# Altium footprint library led_ext_board.PcbLib: 11 footprints
Each footprint in its own frame and in the unit in brackets; x right, y up, seen from the top. Pads: shape width x height; smd on the part's side, far side on the other; paste and mask are expansions set on the pad; w line width, h text height; cw(c..) or ccw(c..) is an arc to the next point about the centre after c.
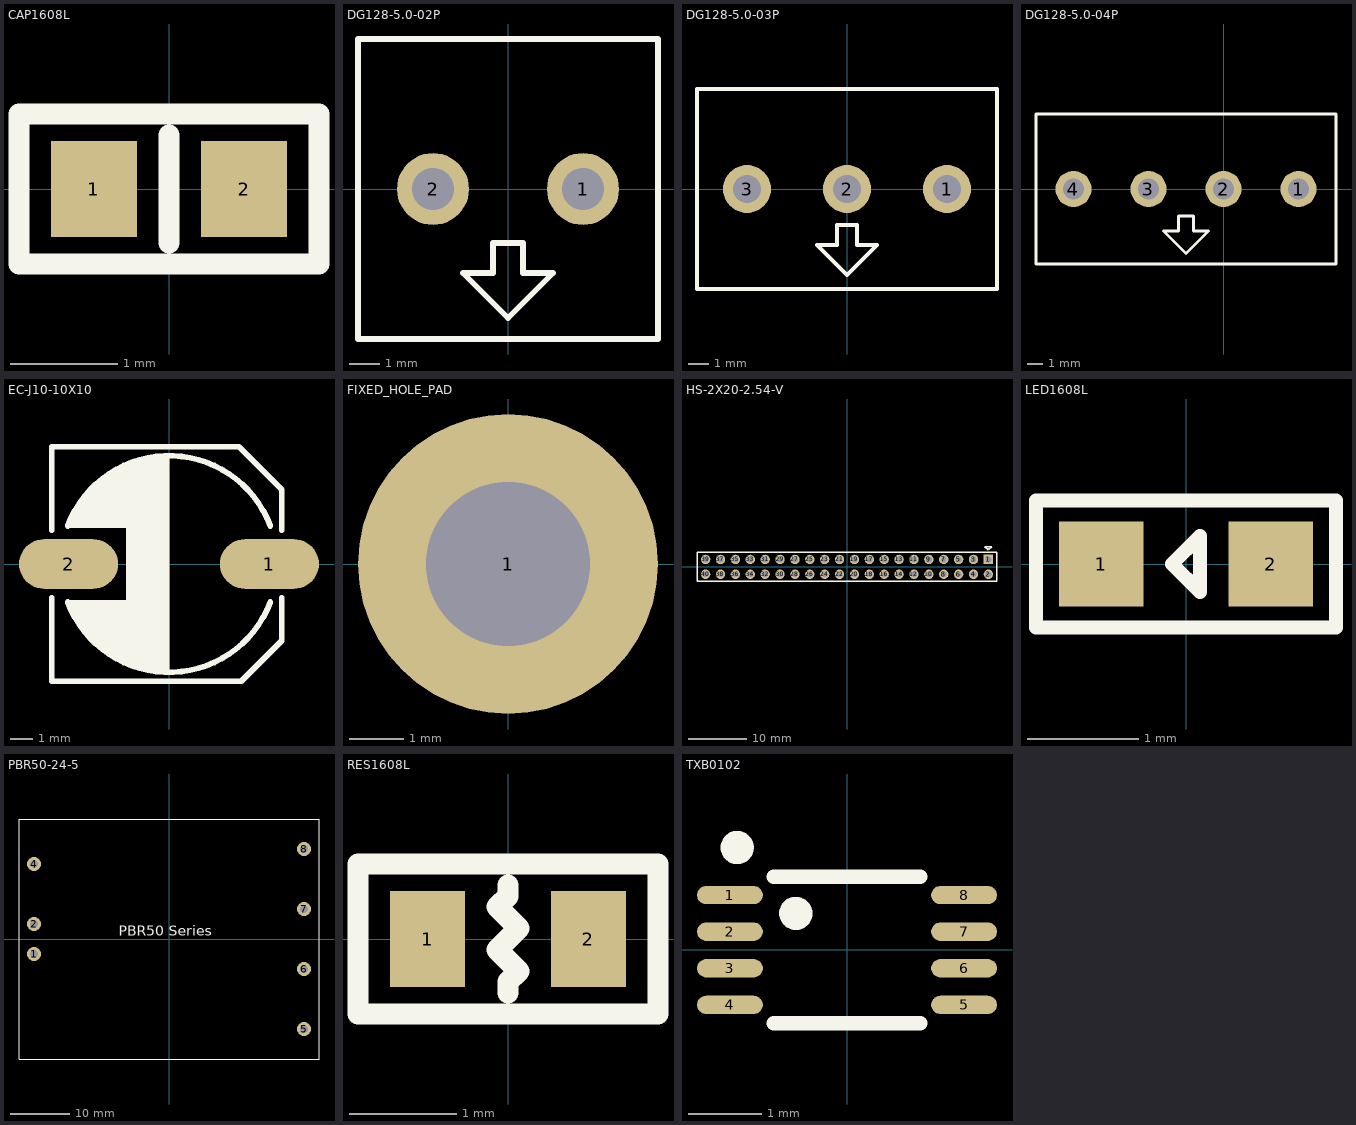
[diagram p0: the footprints below, top view; thin cyan lines are the x and y axes]

## CAP1608L [mm]
height 1
pads (2):
  rect 0.8x0.9 smd: 1(-0.7,0) 2(0.7,0)
Top Overlay:
  lines w0.2: 0,-0.5 0,0.5 ; -1.4,-0.7 -1.4,0.7 1.4,0.7 1.4,-0.7 -1.4,-0.7
3D body "User Library-CAPC1608X09.step": height 0.8, standoff 0, extent -0.8,-0.45 0.8,0.45

## DG128-5.0-02P [mm]
height 14
pads (2):
  round 2.4 hole 1.4: 1(2.5,0) 2(-2.5,0)
Top Overlay:
  lines w0.2: -5,-5 5,-5 5,5 -5,5 -5,-5 ; -1.5,-2.8 -0.5,-2.8 -0.5,-1.8 0.5,-1.8 0.5,-2.8 1.5,-2.8 0,-4.3 -1.5,-2.8
3D body: height 0.25, standoff 0, extent -4,4 -4,4
3D body "User Library-DG128-5_0-02P-14.step": height 14.1, standoff -3.5, extent -5.3,-5.2 5,5
3D body: height 0.25, standoff 0, extent -5,4 -5,4
3D body: height 0.25, standoff 0, extent -1.9,2.8 -1.9,2.8

## DG128-5.0-03P [mm]
height 14
pads (3):
  round 2.4 hole 1.4: 1(5,0) 2(0,0) 3(-5,0)
Top Overlay:
  lines w0.2: -7.5,-5 -7.5,5 7.5,5 7.5,-5 -7.5,-5 ; -1.5,-2.8 0,-4.3 1.5,-2.8 0.5,-2.8 0.5,-1.8 -0.5,-1.8 -0.5,-2.8 -1.5,-2.8
3D body: height 0.25, standoff 0, extent 0.6,2.8 0.6,2.8
3D body: height 0.25, standoff 0, extent -2.5,4 -2.5,4
3D body: height 0.25, standoff 0, extent -1.5,4 -1.5,4
3D body "User Library-DG128-5_0-03P-14.step": height 14.1, standoff -3.5, extent -7.8,-5.2 7.5,5

## DG128-5.0-04P [mm]
height 14
pads (4):
  round 2.4 hole 1.4: 1(5,0) 2(0,0) 3(-5,0) 4(-10,0)
Top Overlay:
  lines w0.2: -12.5,-5 7.5,-5 7.5,5 -12.5,5 -12.5,-5 ; -4,-2.8 -3,-2.8 -3,-1.8 -2,-1.8 -2,-2.8 -1,-2.8 -2.5,-4.3 -4,-2.8
3D body: height 0.25, standoff 0, extent -1.5,4 -1.5,4
3D body: height 0.25, standoff 0, extent -2.5,4 -2.5,4
3D body: height 0.25, standoff 0, extent 0.6,2.8 0.6,2.8
3D body "User Library-DG128-5_0-02P-14.step": height 14.1, standoff -3.5, extent -2.8,-5.2 7.5,5
3D body "User Library-DG128-5_0-02P-14.step": height 14.1, standoff -3.5, extent -12.8,-5.2 -2.5,5

## EC-J10-10X10 [mm] "Aluminum Electrolytic Capacitor D10 - L10"
height 14
pads (2):
  rrect100% 4.4x2.2 smd: 1(4.45,0) 2(-4.45,0)
Top Overlay:
  region: 0,4.8 -1.9,4.4 -3.1,3.6 -4,2.6 -4.541,1.6 -1.9,1.6 -1.9,-1.6 -4.547,-1.6 -3.5,-3.3 -1.9,-4.4 0,-4.8
  region: 1.5,0.5
  lines w0.254: -5.2,-1.5 -5.2,-5.2 3.2,-5.2 5,-3.4 5,-1.5 ; -5.2,1.5 -5.2,5.2 3.1,5.2 5,3.3 5,1.5 ; -4.494,-1.685 ccw(c0,0) 4.494,-1.685 ; -4.494,1.685 cw(c0,0) 4.494,1.685
3D body "User Library-CC1010.step": height 10.41, standoff 0, extent -5.5,-5.2 5.5,5.2

## FIXED_HOLE_PAD [mm]
pads (1):
  round 5.5 hole 3: 1(0,0)

## HS-2X20-2.54-V [mm]
height 1
pads (40):
  rect 1.6x1.6 hole 1: 1(24.13,1.27)
  round 1.6 hole 1: 2(24.13,-1.27) 3(21.59,1.27) 4(21.59,-1.27) 5(19.05,1.27) 6(19.05,-1.27) 7(16.51,1.27) 8(16.51,-1.27) 9(13.97,1.27) 10(13.97,-1.27) 11(11.43,1.27) 12(11.43,-1.27) 13(8.89,1.27) 14(8.89,-1.27) 15(6.35,1.27) 16(6.35,-1.27) 17(3.81,1.27) 18(3.81,-1.27) 19(1.27,1.27) 20(1.27,-1.27) 21(-1.27,1.27) 22(-1.27,-1.27) 23(-3.81,1.27) 24(-3.81,-1.27) 25(-6.35,1.27) 26(-6.35,-1.27) 27(-8.89,1.27) 28(-8.89,-1.27) 29(-11.43,1.27) 30(-11.43,-1.27) 31(-13.97,1.27) 32(-13.97,-1.27) 33(-16.51,1.27) 34(-16.51,-1.27) 35(-19.05,1.27) 36(-19.05,-1.27) 37(-21.59,1.27) 38(-21.59,-1.27) 39(-24.13,1.27) 40(-24.13,-1.27)
Top Overlay:
  lines w0.254: -25.6,-2.5 25.6,-2.5 25.6,2.5 -25.6,2.5 -25.6,-2.5 ; 23.5,3.47 24.7,3.47 24.13,2.9 24.07,2.9 23.5,3.47
3D body "User Library-Header 2x20 2_54mm.step": height 8.5, standoff -2.6, extent -25.537,-2.52 25.563,2.48

## LED1608L [mil]
height 39.37
pads (2):
  rect 30x30 smd: 1(-30,0) 2(30,0)
Top Overlay:
  lines w5: -53.15,-22.5 53.15,-22.5 53.15,22.5 -53.15,22.5 -53.15,-22.5 ; -4.92,0 4.92,9.84 4.92,-9.84 -4.92,0
3D body "User Library-LED SMD0603.step": height 26.76, standoff 0.19, extent -31.79,-14.48 33.17,14.06

## PBR50-24-5 [mm]
height 1
pads (7):
  round 2.4 hole 1.4: 1(-22.86,-2.54) 2(-22.86,2.54) 4(-22.86,12.7) 5(22.86,-15.24) 6(22.86,-5.08) 7(22.86,5.08) 8(22.86,15.24)
Top Overlay:
  lines w0.2: -25.4,-20.32 25.4,-20.32 25.4,20.32 -25.4,20.32 -25.4,-20.32
  text "PBR50 Series" at -8.5,0 h3
3D body: height 11.24, standoff 0, extent -25.4,-20.32 25.4,20.32

## RES1608L [mm]
height 1
pads (2):
  rect 0.7x0.9 smd: 1(-0.75,0) 2(0.75,0)
Top Overlay:
  lines w0.2: 0,-0.5 0,-0.4 0.1,-0.3 -0.1,-0.1 0.1,0.1 -0.1,0.3 0,0.4 0,0.5 ; -1.4,-0.7 1.4,-0.7 1.4,0.7 -1.4,0.7 -1.4,-0.7
3D body "User Library-RESC1608X05N.step": height 0.45, standoff 0, extent -0.775,-0.425 0.775,0.425

## TXB0102 [mm]
pads (8):
  oval 0.9x0.25 smd: 1(-1.6,0.75) 2(-1.6,0.25) 3(-1.6,-0.25) 4(-1.6,-0.75) 5(1.6,-0.75) 6(1.6,-0.25) 7(1.6,0.25) 8(1.6,0.75)
Top Overlay:
  circle w0.254: c-1.5,1.4 r0.1
  circle w0.254: c-0.7,0.5 r0.1
  lines w0.2: -1,-1 1,-1 ; -1,1 1,1
3D body "User Library-SOP50P310X90-8N[8US8_VSSOP_DCU_MO-187CA].step": height 0.9, standoff 0, extent -1.65,-1.05 1.55,1.05